# Altium schematic symbol library STM32WB10CCU5.SchLib: 1 symbol
Pins are listed as number, name and electrical type; pins without a type are passive.

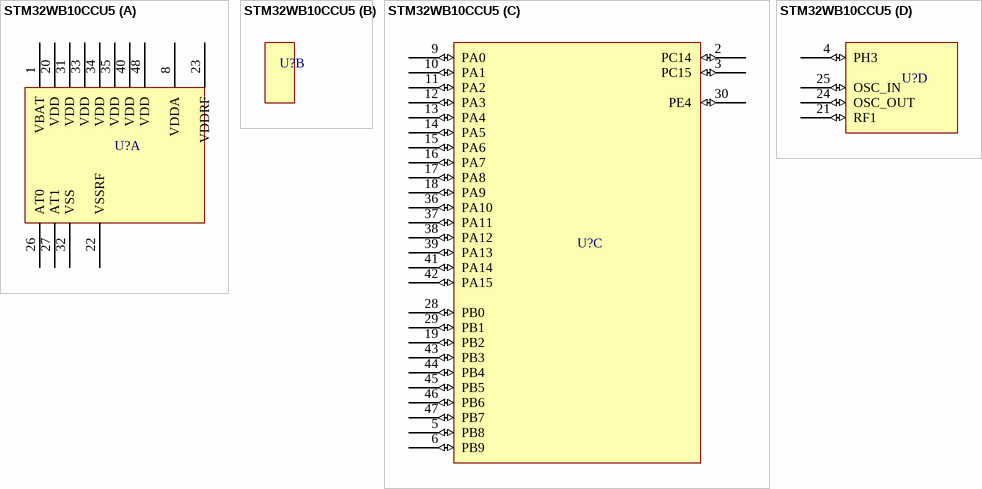
[diagram p0: symbol STM32WB10CCU5]

## STM32WB10CCU5
designator U?  (value not drawn)
Ultra-low-power dual core Arm Cortex-M4 MCU 64 MHz, Cortex-M0+ 32 MHz with 320 Kbytes of Flash memory,  Bluetooth LE 5.4
part A pins: 1 VBAT (power), 8 VDDA (power), 20 VDD (power), 22 VSSRF (power), 23 VDDRF (power), 26 AT0, 27 AT1, 31 VDD (power), 32 VSS (power), 33 VDD (power), 34 VDD (power), 35 VDD (power), 40 VDD (power), 48 VDD (power)
part C pins: 2 PC14 (io), 3 PC15 (io), 5 PB8 (io), 6 PB9 (io), 9 PA0 (io), 10 PA1 (io), 11 PA2 (io), 12 PA3 (io), 13 PA4 (io), 14 PA5 (io), 15 PA6 (io), 16 PA7 (io), 17 PA8 (io), 18 PA9 (io), 19 PB2 (io), 28 PB0 (io), 29 PB1 (io), 30 PE4 (io), 36 PA10 (io), 37 PA11 (io), 38 PA12 (io), 39 PA13 (io), 41 PA14 (io), 42 PA15 (io), 43 PB3 (io), 44 PB4 (io), 45 PB5 (io), 46 PB6 (io), 47 PB7 (io)
part D pins: 4 PH3 (io), 21 RF1 (io), 24 OSC_OUT (io), 25 OSC_IN (io)